# Altium footprint library SOT23-3.PcbLib: 3 footprints
Each footprint in its own frame and in the unit in brackets; x right, y up, seen from the top. Pads: shape width x height; smd on the part's side, far side on the other; paste and mask are expansions set on the pad; w line width, h text height; cw(c..) or ccw(c..) is an arc to the next point about the centre after c.
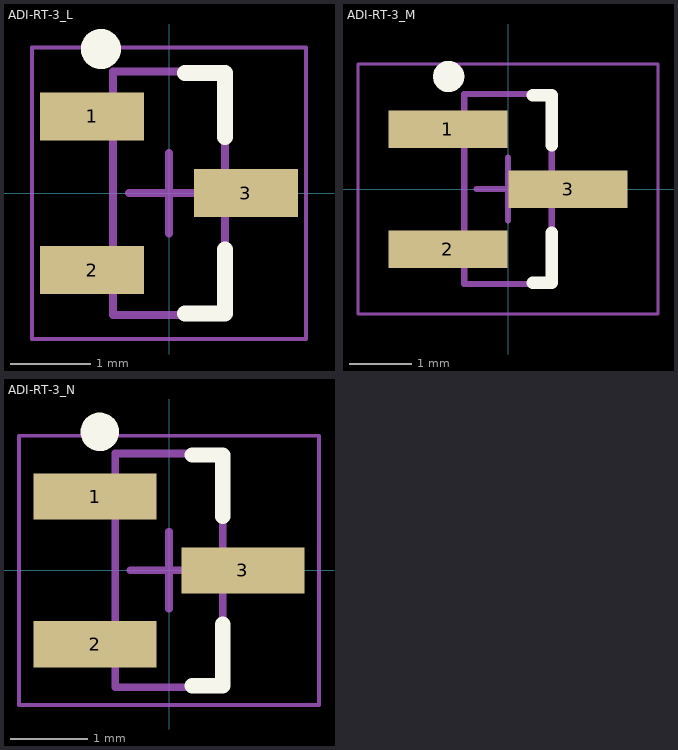
[diagram p0: the footprints below, top view; thin cyan lines are the x and y axes]

## ADI-RT-3_L [mm] "SOT23, 3-Leads, Body 2.9x1.3mm, Pitch 0.96mm, IPC High Density"
height 1.12
pads (3):
  rect 1.3x0.6 smd: 1(-0.96,0.96) 2(-0.96,-0.96) 3(0.96,0)
Top Overlay:
  circle w0.25: c-0.85,1.8 r0.125
  lines w0.2: 0.2,-1.5 0.7,-1.5 0.7,-0.7 ; 0.2,1.5 0.7,1.5 0.7,0.7
Mechanical 13:
  lines w0.1: -0.7,-1.52 -0.7,1.52 0.7,1.52 0.7,-1.52 -0.7,-1.52
Mechanical 15:
  lines w0.05: -1.71,-1.82 -1.71,1.82 1.71,1.82 1.71,-1.82 -1.71,-1.82
  lines w0.1: -0.5,0 0.5,0 ; 0,-0.5 0,0.5
3D body: height 1.12, standoff 0.01, extent -0.7,-1.52 0.7,1.52

## ADI-RT-3_M [mm] "SOT23, 3-Leads, Body 2.9x1.3mm, Pitch 0.96mm, IPC Low Density"
height 1.12
pads (3):
  rect 1.9x0.6 smd: 1(-0.96,0.96) 2(-0.96,-0.96) 3(0.96,0)
Top Overlay:
  circle w0.25: c-0.95,1.8 r0.125
  lines w0.2: 0.4,-1.5 0.7,-1.5 0.7,-0.7 ; 0.4,1.5 0.7,1.5 0.7,0.7
Mechanical 13:
  lines w0.1: -0.7,-1.52 -0.7,1.52 0.7,1.52 0.7,-1.52 -0.7,-1.52
Mechanical 15:
  lines w0.05: -2.4,-2 -2.4,2 2.4,2 2.4,-2 -2.4,-2
  lines w0.1: -0.5,0 0.5,0 ; 0,-0.5 0,0.5
3D body: height 1.12, standoff 0.01, extent -0.7,-1.52 0.7,1.52

## ADI-RT-3_N [mm] "SOT23, 3-Leads, Body 2.9x1.3mm, Pitch 0.96mm, IPC Medium Density"
height 1.12
pads (3):
  rect 1.6x0.6 smd: 1(-0.96,0.96) 2(-0.96,-0.96) 3(0.96,0)
Top Overlay:
  circle w0.25: c-0.9,1.8 r0.125
  lines w0.2: 0.3,-1.5 0.7,-1.5 0.7,-0.7 ; 0.3,1.5 0.7,1.5 0.7,0.7
Mechanical 13:
  lines w0.1: -0.7,-1.52 -0.7,1.52 0.7,1.52 0.7,-1.52 -0.7,-1.52
Mechanical 15:
  lines w0.05: -1.95,-1.75 -1.95,1.75 1.95,1.75 1.95,-1.75 -1.95,-1.75
  lines w0.1: -0.5,0 0.5,0 ; 0,-0.5 0,0.5
3D body: height 1.12, standoff 0.01, extent -0.7,-1.52 0.7,1.52